# Altium schematic symbol library MCU.SchLib: 34 symbols (part 2 of 2)
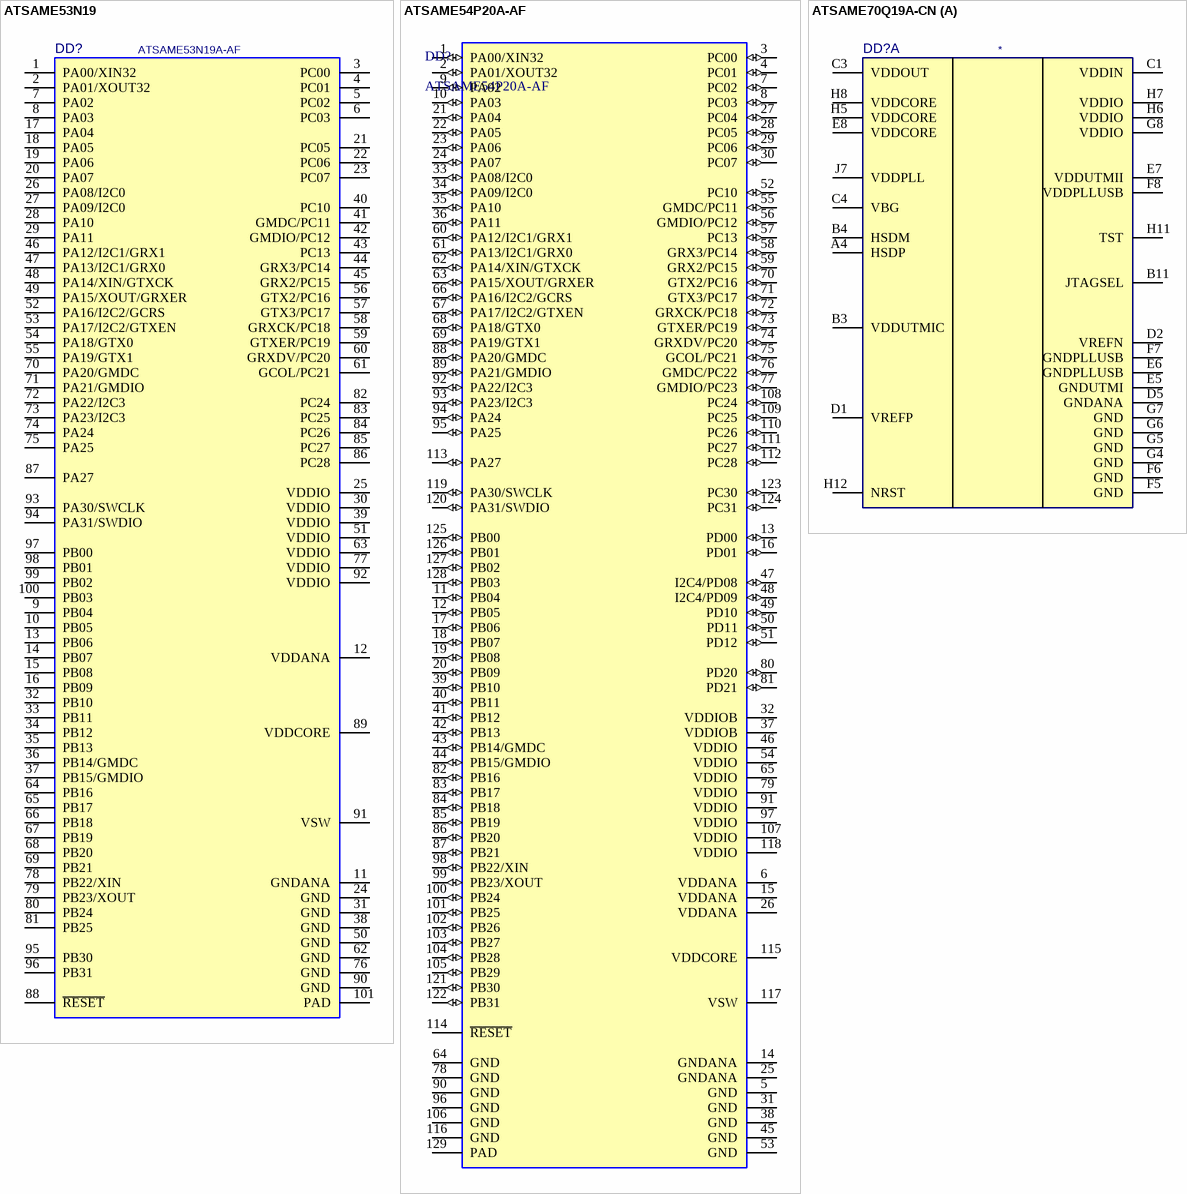
[diagram p13: symbols ATSAME53N19 to ATSAME70Q19A-CN]

## ATSAME53N19
designator DD?, comment ATSAME53N19A-AF
footprint LQFP100-TPAD
pins: 1 PA00/XIN32 (power), 2 PA01/XOUT32 (power), 3 PC00 (power), 4 PC01 (power), 5 PC02 (power), 6 PC03 (power), 7 PA02 (power), 8 PA03 (power), 9 PB04 (power), 10 PB05 (power), 11 GNDANA (power), 12 VDDANA (power), 13 PB06 (power), 14 PB07 (power), 15 PB08 (power), 16 PB09 (power), 17 PA04 (power), 18 PA05 (power), 19 PA06 (power), 20 PA07 (power), 21 PC05 (power), 22 PC06 (power), 23 PC07 (power), 24 GND (power), 25 VDDIO (power), 26 PA08/I2C0 (power), 27 PA09/I2C0 (power), 28 PA10 (power), 29 PA11 (power), 30 VDDIO (power), 31 GND (power), 32 PB10 (power), 33 PB11 (power), 34 PB12 (power), 35 PB13 (power), 36 PB14/GMDC (power), 37 PB15/GMDIO (power), 38 GND (power), 39 VDDIO (power), 40 PC10 (power), 41 GMDC/PC11 (power), 42 GMDIO/PC12 (power), 43 PC13 (power), 44 GRX3/PC14 (power), 45 GRX2/PC15 (power), 46 PA12/I2C1/GRX1 (power), 47 PA13/I2C1/GRX0 (power), 48 PA14/XIN/GTXCK (power), 49 PA15/XOUT/GRXER (power), 50 GND (power), 51 VDDIO (power), 52 PA16/I2C2/GCRS (power), 53 PA17/I2C2/GTXEN (power), 54 PA18/GTX0 (power), 55 PA19/GTX1 (power), 56 GTX2/PC16 (power), 57 GTX3/PC17 (power), 58 GRXCK/PC18 (power), 59 GTXER/PC19 (power), 60 GRXDV/PC20 (power), 61 GCOL/PC21 (power), 62 GND (power), 63 VDDIO (power), 64 PB16 (power), 65 PB17 (power), 66 PB18 (power), 67 PB19 (power), 68 PB20 (power), 69 PB21 (power), 70 PA20/GMDC (power), 71 PA21/GMDIO (power), 72 PA22/I2C3 (power), 73 PA23/I2C3 (power), 74 PA24 (power), 75 PA25 (power), 76 GND (power), 77 VDDIO (power), 78 PB22/XIN (power), 79 PB23/XOUT (power), 80 PB24 (power), 81 PB25 (power), 82 PC24 (power), 83 PC25 (power), 84 PC26 (power), 85 PC27 (power), 86 PC28 (power), 87 PA27 (power), 88 ~{RESET} (power), 89 VDDCORE (power), 90 GND (power), 91 VSW (power), 92 VDDIO (power), 93 PA30/SWCLK (power), 94 PA31/SWDIO (power), 95 PB30 (power), 96 PB31 (power), 97 PB00 (power), 98 PB01 (power), 99 PB02 (power), 100 PB03 (power), 101 PAD (power)

## ATSAME54P20A-AF
designator DD?
No Description Available; Mfr_Name: Microchip; RefDes: RefDes; Type: Type
footprint TQFP128-0.4-TPAD (QFP; 128 Leads; Body 14 x 14 mm; Pitch 0.4 mm)
pins: 1 PA00/XIN32 (io), 2 PA01/XOUT32 (io), 3 PC00 (io), 4 PC01 (io), 5 GND (power), 6 VDDANA (power), 7 PC02 (io), 8 PC03 (io), 9 PA02 (io), 10 PA03 (io), 11 PB04 (io), 12 PB05 (io), 13 PD00 (io), 14 GNDANA (power), 15 VDDANA (power), 16 PD01 (io), 17 PB06 (io), 18 PB07 (io), 19 PB08 (io), 20 PB09 (io), 21 PA04 (io), 22 PA05 (io), 23 PA06 (io), 24 PA07 (io), 25 GNDANA (power), 26 VDDANA (power), 27 PC04 (io), 28 PC05 (io), 29 PC06 (io), 30 PC07 (io), 31 GND (power), 32 VDDIOB (power), 33 PA08/I2C0 (io), 34 PA09/I2C0 (io), 35 PA10 (io), 36 PA11 (io), 37 VDDIOB (power), 38 GND (power), 39 PB10 (io), 40 PB11 (io), 41 PB12 (io), 42 PB13 (io), 43 PB14/GMDC (io), 44 PB15/GMDIO (io), 45 GND (power), 46 VDDIO (power), 47 I2C4/PD08 (io), 48 I2C4/PD09 (io), 49 PD10 (io), 50 PD11 (io), 51 PD12 (io), 52 PC10 (io), 53 GND (power), 54 VDDIO (power), 55 GMDC/PC11 (io), 56 GMDIO/PC12 (io), 57 PC13 (io), 58 GRX3/PC14 (io), 59 GRX2/PC15 (io), 60 PA12/I2C1/GRX1 (io), 61 PA13/I2C1/GRX0 (io), 62 PA14/XIN/GTXCK (io), 63 PA15/XOUT/GRXER (io), 64 GND (power), 65 VDDIO (power), 66 PA16/I2C2/GCRS (io), 67 PA17/I2C2/GTXEN (io), 68 PA18/GTX0 (io), 69 PA19/GTX1 (io), 70 GTX2/PC16 (io), 71 GTX3/PC17 (io), 72 GRXCK/PC18 (io), 73 GTXER/PC19 (io), 74 GRXDV/PC20 (io), 75 GCOL/PC21 (io), 76 GMDC/PC22 (io), 77 GMDIO/PC23 (io), 78 GND (power), 79 VDDIO (power), 80 PD20 (io), 81 PD21 (io), 82 PB16 (io), 83 PB17 (io), 84 PB18 (io), 85 PB19 (io), 86 PB20 (io), 87 PB21 (io), 88 PA20/GMDC (io), 89 PA21/GMDIO (io), 90 GND (power), 91 VDDIO (power), 92 PA22/I2C3 (io), 93 PA23/I2C3 (io), 94 PA24 (io), 95 PA25 (io), 96 GND (power), 97 VDDIO (power), 98 PB22/XIN (io), 99 PB23/XOUT (io), 100 PB24 (io), 101 PB25 (io), 102 PB26 (io), 103 PB27 (io), 104 PB28 (io), 105 PB29 (io), 106 GND (power), 107 VDDIO (power), 108 PC24 (io), 109 PC25 (io), 110 PC26 (io), 111 PC27 (io), 112 PC28 (io), 113 PA27 (io), 114 ~{RESET}, 115 VDDCORE (power), 116 GND (power), 117 VSW, 118 VDDIO (power), 119 PA30/SWCLK (io), 120 PA31/SWDIO (io), 121 PB30 (io), 122 PB31 (io), 123 PC30 (io), 124 PC31 (io), 125 PB00 (io), 126 PB01 (io), 127 PB02 (io), 128 PB03 (io), 129 PAD (power)

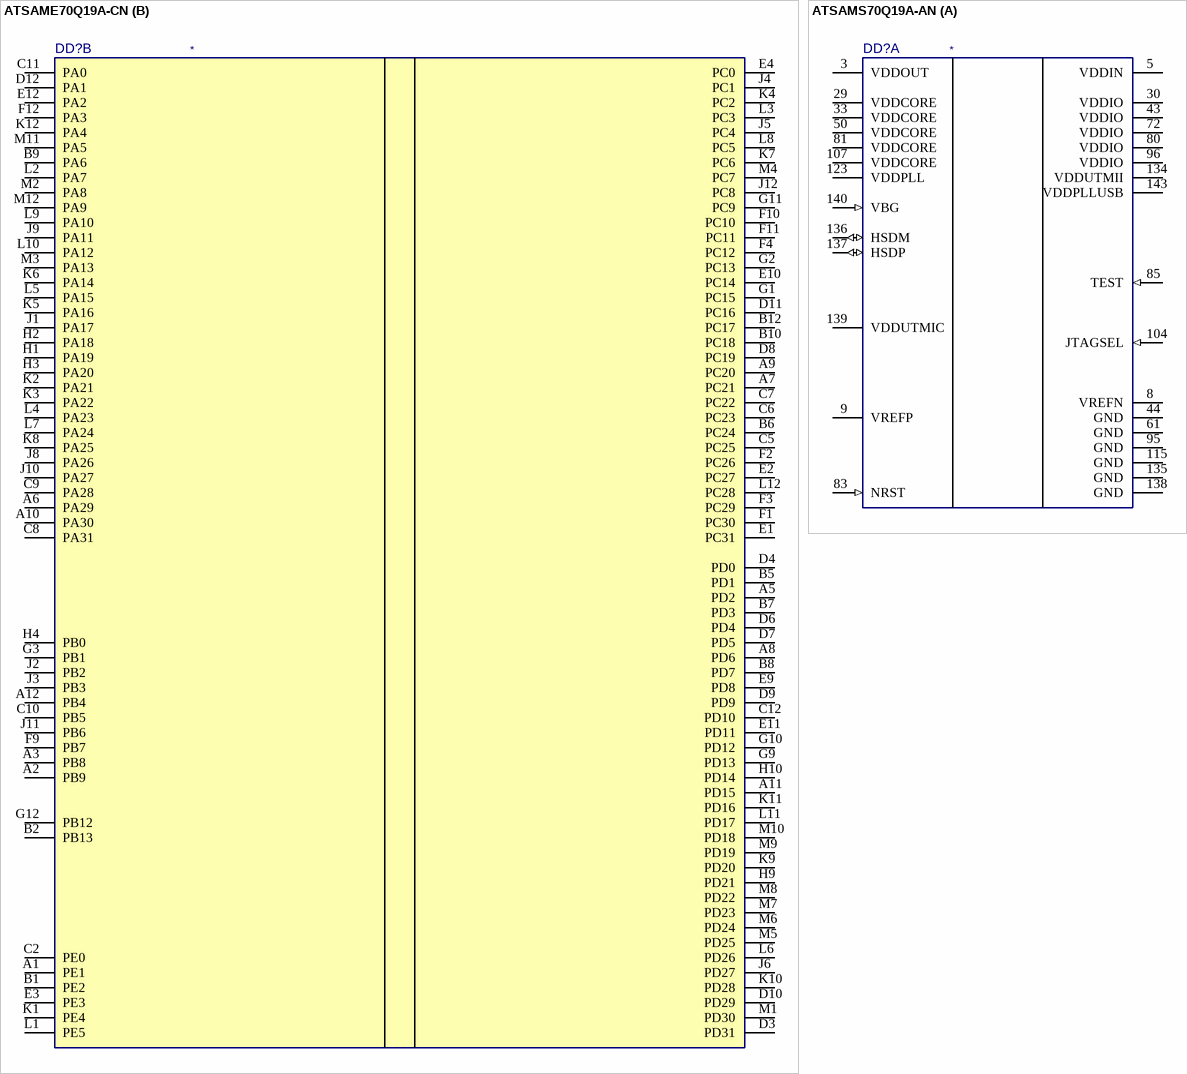
[diagram p8: symbols ATSAME70Q19A-CN to ATSAMS70Q19A-AN]

## ATSAME70Q19A-CN
designator DD?
footprint LFBGA144 (BGA, 144-Leads, Body 10x10mm, Pitch 0.8mm)
part A pins: A4 HSDP, B3 VDDUTMIC, B4 HSDM, B11 JTAGSEL, C1 VDDIN, C3 VDDOUT, C4 VBG, D1 VREFP, D2 VREFN, D5 GNDANA, E5 GNDUTMI, E6 GNDPLLUSB, E7 VDDUTMII, E8 VDDCORE, F5 GND, F6 GND, F7 GNDPLLUSB, F8 VDDPLLUSB, G4 GND, G5 GND, G6 GND, G7 GND, G8 VDDIO, H5 VDDCORE, H6 VDDIO, H7 VDDIO, H8 VDDCORE, H11 TST, H12 NRST, J7 VDDPLL
part B pins: A1 PE1, A2 PB9, A3 PB8, A5 PD2, A6 PA29, A7 PC21, A8 PD6, A9 PC20, A10 PA30, A11 PD15, A12 PB4, B1 PE2, B2 PB13, B5 PD1, B6 PC24, B7 PD3, B8 PD7, B9 PA6, B10 PC18, B12 PC17, C2 PE0, C5 PC25, C6 PC23, C7 PC22, C8 PA31, C9 PA28, C10 PB5, C11 PA0, C12 PD10, D3 PD31, D4 PD0, D6 PD4, D7 PD5, D8 PC19, D9 PD9, D10 PD29, D11 PC16, D12 PA1, E1 PC31, E2 PC27, E3 PE3, E4 PC0, E9 PD8, E10 PC14, E11 PD11, E12 PA2, F1 PC30, F2 PC26, F3 PC29, F4 PC12, F9 PB7, F10 PC10, F11 PC11, F12 PA3, G1 PC15, G2 PC13, G3 PB1, G9 PD13, G10 PD12, G11 PC9, G12 PB12, H1 PA19, H2 PA18, H3 PA20, H4 PB0, H9 PD21, H10 PD14, J1 PA17, J2 PB2, J3 PB3, J4 PC1, J5 PC4, J6 PD27, J8 PA26, J9 PA11, J10 PA27, J11 PB6, J12 PC8, K1 PE4, K2 PA21, K3 PA22, K4 PC2, K5 PA16, K6 PA14, K7 PC6, K8 PA25, K9 PD20, K10 PD28, K11 PD16, K12 PA4, L1 PE5, L2 PA7, L3 PC3, L4 PA23, L5 PA15, L6 PD26, L7 PA24, L8 PC5, L9 PA10, L10 PA12, L11 PD17, L12 PC28, M1 PD30, M2 PA8, M3 PA13, M4 PC7, M5 PD25, M6 PD24, M7 PD23, M8 PD22, M9 PD19, M10 PD18, M11 PA5, M12 PA9

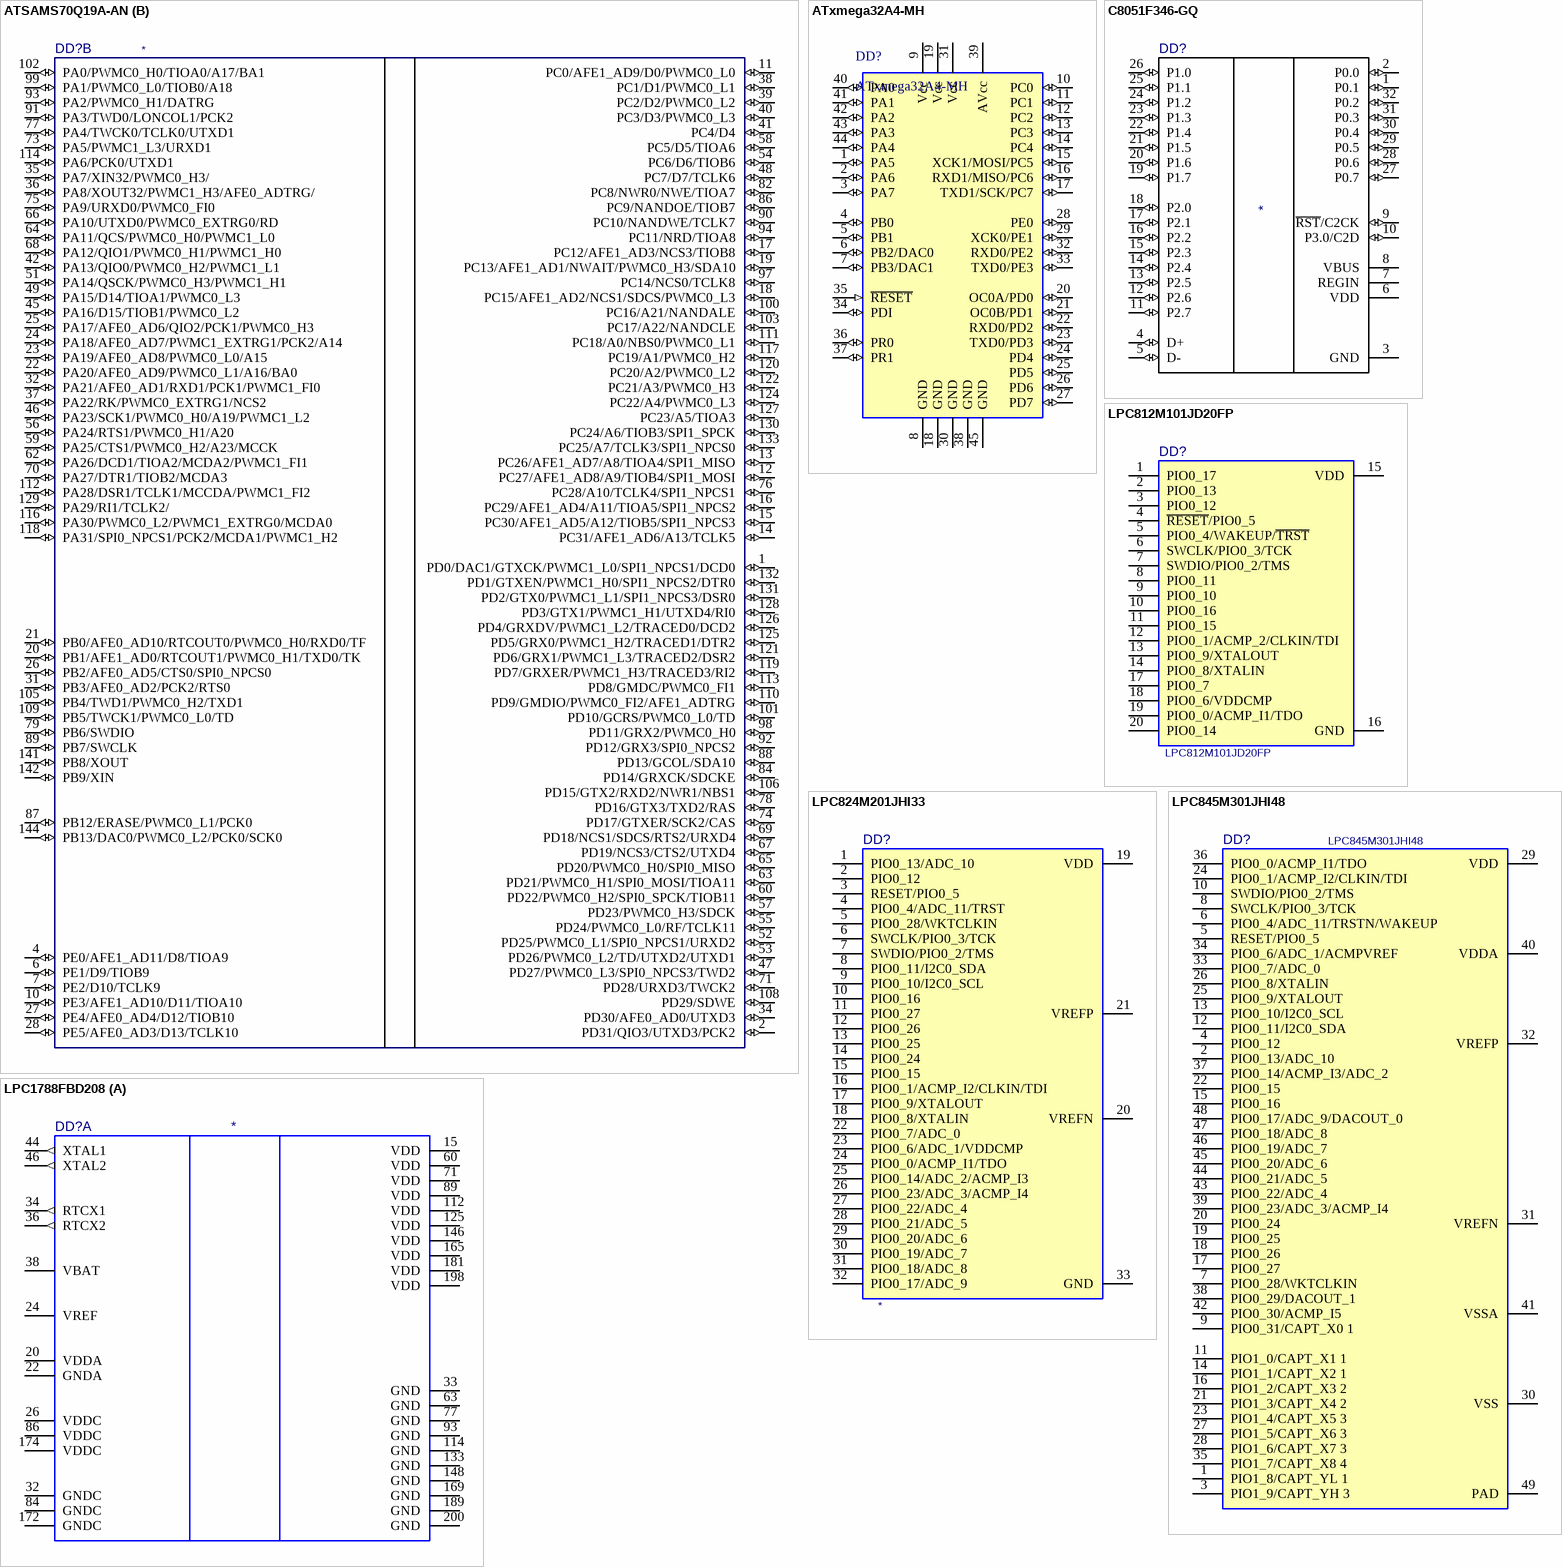
[diagram p9: symbols ATSAMS70Q19A-AN to LPC1788FBD208]

## ATSAMS70Q19A-AN
designator DD?
footprint LQFP144
part A pins: 3 VDDOUT (power), 5 VDDIN (power), 8 VREFN (power), 9 VREFP (power), 29 VDDCORE (power), 30 VDDIO (power), 33 VDDCORE (power), 43 VDDIO (power), 44 GND (power), 50 VDDCORE (power), 61 GND (power), 72 VDDIO (power), 80 VDDIO (power), 81 VDDCORE (power), 83 NRST (in), 85 TEST (in), 95 GND (power), 96 VDDIO (power), 104 JTAGSEL (in), 107 VDDCORE (power), 115 GND (power), 123 VDDPLL (power), 134 VDDUTMII (power), 135 GND (power), 136 HSDM (io), 137 HSDP (io), 138 GND (power), 139 VDDUTMIC (power), 140 VBG (in), 143 VDDPLLUSB (power)
part B pins: 1 PD0/DAC1/GTXCK/PWMC1_L0/SPI1_NPCS1/DCD0 (io), 2 PD31/QIO3/UTXD3/PCK2 (io), 4 PE0/AFE1_AD11/D8/TIOA9 (io), 6 PE1/D9/TIOB9 (io), 7 PE2/D10/TCLK9 (io), 10 PE3/AFE1_AD10/D11/TIOA10 (io), 11 PC0/AFE1_AD9/D0/PWMC0_L0 (io), 12 PC27/AFE1_AD8/A9/TIOB4/SPI1_MOSI (io), 13 PC26/AFE1_AD7/A8/TIOA4/SPI1_MISO (io), 14 PC31/AFE1_AD6/A13/TCLK5 (io), 15 PC30/AFE1_AD5/A12/TIOB5/SPI1_NPCS3 (io), 16 PC29/AFE1_AD4/A11/TIOA5/SPI1_NPCS2 (io), 17 PC12/AFE1_AD3/NCS3/TIOB8 (io), 18 PC15/AFE1_AD2/NCS1/SDCS/PWMC0_L3 (io), 19 PC13/AFE1_AD1/NWAIT/PWMC0_H3/SDA10 (io), 20 PB1/AFE1_AD0/RTCOUT1/PWMC0_H1/TXD0/TK (io), 21 PB0/AFE0_AD10/RTCOUT0/PWMC0_H0/RXD0/TF (io), 22 PA20/AFE0_AD9/PWMC0_L1/A16/BA0 (io), 23 PA19/AFE0_AD8/PWMC0_L0/A15 (io), 24 PA18/AFE0_AD7/PWMC1_EXTRG1/PCK2/A14 (io), 25 PA17/AFE0_AD6/QIO2/PCK1/PWMC0_H3 (io), 26 PB2/AFE0_AD5/CTS0/SPI0_NPCS0 (io), 27 PE4/AFE0_AD4/D12/TIOB10 (io), 28 PE5/AFE0_AD3/D13/TCLK10 (io), 31 PB3/AFE0_AD2/PCK2/RTS0 (io), 32 PA21/AFE0_AD1/RXD1/PCK1/PWMC1_FI0 (io), 34 PD30/AFE0_AD0/UTXD3 (io), 35 PA7/XIN32/PWMC0_H3/ (io), 36 PA8/XOUT32/PWMC1_H3/AFE0_ADTRG/ (io), 37 PA22/RK/PWMC0_EXTRG1/NCS2 (io), 38 PC1/D1/PWMC0_L1 (io), 39 PC2/D2/PWMC0_L2 (io), 40 PC3/D3/PWMC0_L3 (io), 41 PC4/D4 (io), 42 PA13/QIO0/PWMC0_H2/PWMC1_L1 (io), 45 PA16/D15/TIOB1/PWMC0_L2 (io), 46 PA23/SCK1/PWMC0_H0/A19/PWMC1_L2 (io), 47 PD27/PWMC0_L3/SPI0_NPCS3/TWD2 (io), 48 PC7/D7/TCLK6 (io), 49 PA15/D14/TIOA1/PWMC0_L3 (io), 51 PA14/QSCK/PWMC0_H3/PWMC1_H1 (io), 52 PD25/PWMC0_L1/SPI0_NPCS1/URXD2 (io), 53 PD26/PWMC0_L2/TD/UTXD2/UTXD1 (io), 54 PC6/D6/TIOB6 (io), 55 PD24/PWMC0_L0/RF/TCLK11 (io), 56 PA24/RTS1/PWMC0_H1/A20 (io), 57 PD23/PWMC0_H3/SDCK (io), 58 PC5/D5/TIOA6 (io), 59 PA25/CTS1/PWMC0_H2/A23/MCCK (io), 60 PD22/PWMC0_H2/SPI0_SPCK/TIOB11 (io), 62 PA26/DCD1/TIOA2/MCDA2/PWMC1_FI1 (io), 63 PD21/PWMC0_H1/SPI0_MOSI/TIOA11 (io), 64 PA11/QCS/PWMC0_H0/PWMC1_L0 (io), 65 PD20/PWMC0_H0/SPI0_MISO (io), 66 PA10/UTXD0/PWMC0_EXTRG0/RD (io), 67 PD19/NCS3/CTS2/UTXD4 (io), 68 PA12/QIO1/PWMC0_H1/PWMC1_H0 (io), 69 PD18/NCS1/SDCS/RTS2/URXD4 (io), 70 PA27/DTR1/TIOB2/MCDA3 (io), 71 PD28/URXD3/TWCK2 (io), 73 PA5/PWMC1_L3/URXD1 (io), 74 PD17/GTXER/SCK2/CAS (io), 75 PA9/URXD0/PWMC0_FI0 (io), 76 PC28/A10/TCLK4/SPI1_NPCS1 (io), 77 PA4/TWCK0/TCLK0/UTXD1 (io), 78 PD16/GTX3/TXD2/RAS (io), 79 PB6/SWDIO (io), 82 PC8/NWR0/NWE/TIOA7 (io), 84 PD14/GRXCK/SDCKE (io), 86 PC9/NANDOE/TIOB7 (io), 87 PB12/ERASE/PWMC0_L1/PCK0 (io), 88 PD13/GCOL/SDA10 (io), 89 PB7/SWCLK (io), 90 PC10/NANDWE/TCLK7 (io), 91 PA3/TWD0/LONCOL1/PCK2 (io), 92 PD12/GRX3/SPI0_NPCS2 (io), 93 PA2/PWMC0_H1/DATRG (io), 94 PC11/NRD/TIOA8 (io), 97 PC14/NCS0/TCLK8 (io), 98 PD11/GRX2/PWMC0_H0 (io), 99 PA1/PWMC0_L0/TIOB0/A18 (io), 100 PC16/A21/NANDALE (io), 101 PD10/GCRS/PWMC0_L0/TD (io), 102 PA0/PWMC0_H0/TIOA0/A17/BA1 (io), 103 PC17/A22/NANDCLE (io), 105 PB4/TWD1/PWMC0_H2/TXD1 (io), 106 PD15/GTX2/RXD2/NWR1/NBS1 (io), 108 PD29/SDWE (io), 109 PB5/TWCK1/PWMC0_L0/TD (io), 110 PD9/GMDIO/PWMC0_FI2/AFE1_ADTRG (io), 111 PC18/A0/NBS0/PWMC0_L1 (io), 112 PA28/DSR1/TCLK1/MCCDA/PWMC1_FI2 (io), 113 PD8/GMDC/PWMC0_FI1 (io), 114 PA6/PCK0/UTXD1 (io), 116 PA30/PWMC0_L2/PWMC1_EXTRG0/MCDA0 (io), 117 PC19/A1/PWMC0_H2 (io), 118 PA31/SPI0_NPCS1/PCK2/MCDA1/PWMC1_H2 (io), 119 PD7/GRXER/PWMC1_H3/TRACED3/RI2 (io), 120 PC20/A2/PWMC0_L2 (io), 121 PD6/GRX1/PWMC1_L3/TRACED2/DSR2 (io), 122 PC21/A3/PWMC0_H3 (io), 124 PC22/A4/PWMC0_L3 (io), 125 PD5/GRX0/PWMC1_H2/TRACED1/DTR2 (io), 126 PD4/GRXDV/PWMC1_L2/TRACED0/DCD2 (io), 127 PC23/A5/TIOA3 (io), 128 PD3/GTX1/PWMC1_H1/UTXD4/RI0 (io), 129 PA29/RI1/TCLK2/ (io), 130 PC24/A6/TIOB3/SPI1_SPCK (io), 131 PD2/GTX0/PWMC1_L1/SPI1_NPCS3/DSR0 (io), 132 PD1/GTXEN/PWMC1_H0/SPI1_NPCS2/DTR0 (io), 133 PC25/A7/TCLK3/SPI1_NPCS0 (io), 141 PB8/XOUT (io), 142 PB9/XIN (io), 144 PB13/DAC0/PWMC0_L2/PCK0/SCK0 (io)

## ATxmega32A4-MH
designator DD?
XMEGA processor
footprint VQFN44M1
pins: 1 PA5 (io), 2 PA6 (io), 3 PA7 (io), 4 PB0 (io), 5 PB1 (io), 6 PB2/DAC0 (io), 7 PB3/DAC1 (io), 8 GND (power), 9 Vcc (power), 10 PC0 (io), 11 PC1 (io), 12 PC2 (io), 13 PC3 (io), 14 PC4 (io), 15 XCK1/MOSI/PC5 (io), 16 RXD1/MISO/PC6 (io), 17 TXD1/SCK/PC7 (io), 18 GND (power), 19 Vcc (power), 20 OC0A/PD0 (io), 21 OC0B/PD1 (io), 22 RXD0/PD2 (io), 23 TXD0/PD3 (io), 24 PD4 (io), 25 PD5 (io), 26 PD6 (io), 27 PD7 (io), 28 PE0 (io), 29 XCK0/PE1 (io), 30 GND (power), 31 Vcc (power), 32 RXD0/PE2 (io), 33 TXD0/PE3 (io), 34 PDI (io), 35 ~{RESET} (in), 36 PR0 (io), 37 PR1 (io), 38 GND (power), 39 AVcc (power), 40 PA0 (io), 41 PA1 (io), 42 PA2 (io), 43 PA3 (io), 44 PA4 (io), 45 GND (power)

## C8051F346-GQ
designator DD?
footprint TQFP32(51-85063)
signal-integrity model Model Name (Model Description)
pins: 1 P0.1 (io), 2 P0.0 (io), 3 GND (power), 4 D+ (io), 5 D- (io), 6 VDD (power), 7 REGIN (power), 8 VBUS (power), 9 ~{RST}/C2CK (io), 10 P3.0/C2D (io), 11 P2.7 (io), 12 P2.6 (io), 13 P2.5 (io), 14 P2.4 (io), 15 P2.3 (io), 16 P2.2 (io), 17 P2.1 (io), 18 P2.0 (io), 19 P1.7 (io), 20 P1.6 (io), 21 P1.5 (io), 22 P1.4 (io), 23 P1.3 (io), 24 P1.2 (io), 25 P1.1 (io), 26 P1.0 (io), 27 P0.7 (io), 28 P0.6 (io), 29 P0.5 (io), 30 P0.4 (io), 31 P0.3 (io), 32 P0.2 (io)

## LPC812M101JD20FP
designator DD?
footprint SO20
footprint TSSOP20 (JEDEC MO-153)
footprint SO20 (JEDEC MS-013)
pins: 1 PIO0_17, 2 PIO0_13, 3 PIO0_12, 4 ~{RESET}/PIO0_5, 5 PIO0_4/WAKEUP/~{TRST}, 6 SWCLK/PIO0_3/TCK, 7 SWDIO/PIO0_2/TMS, 8 PIO0_11, 9 PIO0_10, 10 PIO0_16, 11 PIO0_15, 12 PIO0_1/ACMP_2/CLKIN/TDI, 13 PIO0_9/XTALOUT, 14 PIO0_8/XTALIN, 15 VDD, 16 GND, 17 PIO0_7, 18 PIO0_6/VDDCMP, 19 PIO0_0/ACMP_I1/TDO, 20 PIO0_14

## LPC824M201JHI33
designator DD?
footprint HVQFN33
pins: 1 PIO0_13/ADC_10, 2 PIO0_12, 3 RESET/PIO0_5, 4 PIO0_4/ADC_11/TRST, 5 PIO0_28/WKTCLKIN, 6 SWCLK/PIO0_3/TCK , 7 SWDIO/PIO0_2/TMS, 8 PIO0_11/I2C0_SDA, 9 PIO0_10/I2C0_SCL, 10 PIO0_16, 11 PIO0_27, 12 PIO0_26, 13 PIO0_25, 14 PIO0_24, 15 PIO0_15, 16 PIO0_1/ACMP_I2/CLKIN/TDI, 17 PIO0_9/XTALOUT, 18 PIO0_8/XTALIN, 19 VDD, 20 VREFN, 21 VREFP, 22 PIO0_7/ADC_0, 23 PIO0_6/ADC_1/VDDCMP, 24 PIO0_0/ACMP_I1/TDO, 25 PIO0_14/ADC_2/ACMP_I3, 26 PIO0_23/ADC_3/ACMP_I4, 27 PIO0_22/ADC_4, 28 PIO0_21/ADC_5, 29 PIO0_20/ADC_6, 30 PIO0_19/ADC_7, 31 PIO0_18/ADC_8, 32 PIO0_17/ADC_9, 33 GND

## LPC845M301JHI48
designator DD?
footprint HVQFN48 (SOT619-1, plastic thermal enhanced very thin quad flat package; no leads;  48 terminals; body 7 x 7 x 0.85 mm)
pins: 1 PIO1_8/CAPT_YL 1, 2 PIO0_13/ADC_10, 3 PIO1_9/CAPT_YH 3, 4 PIO0_12, 5 RESET/PIO0_5, 6 PIO0_4/ADC_11/TRSTN/WAKEUP, 7 PIO0_28/WKTCLKIN, 8 SWCLK/PIO0_3/TCK, 9 PIO0_31/CAPT_X0 1, 10 SWDIO/PIO0_2/TMS, 11 PIO1_0/CAPT_X1 1, 12 PIO0_11/I2C0_SDA, 13 PIO0_10/I2C0_SCL, 14 PIO1_1/CAPT_X2 1, 15 PIO0_16, 16 PIO1_2/CAPT_X3 2, 17 PIO0_27, 18 PIO0_26, 19 PIO0_25, 20 PIO0_24, 21 PIO1_3/CAPT_X4 2, 22 PIO0_15, 23 PIO1_4/CAPT_X5 3, 24 PIO0_1/ACMP_I2/CLKIN/TDI, 25 PIO0_9/XTALOUT, 26 PIO0_8/XTALIN, 27 PIO1_5/CAPT_X6 3, 28 PIO1_6/CAPT_X7 3, 29 VDD, 30 VSS, 31 VREFN, 32 VREFP, 33 PIO0_7/ADC_0, 34 PIO0_6/ADC_1/ACMPVREF, 35 PIO1_7/CAPT_X8 4, 36 PIO0_0/ACMP_I1/TDO, 37 PIO0_14/ACMP_I3/ADC_2, 38 PIO0_29/DACOUT_1, 39 PIO0_23/ADC_3/ACMP_I4, 40 VDDA, 41 VSSA, 42 PIO0_30/ACMP_I5, 43 PIO0_22/ADC_4, 44 PIO0_21/ADC_5, 45 PIO0_20/ADC_6, 46 PIO0_19/ADC_7, 47 PIO0_18/ADC_8, 48 PIO0_17/ADC_9/DACOUT_0, 49 PAD

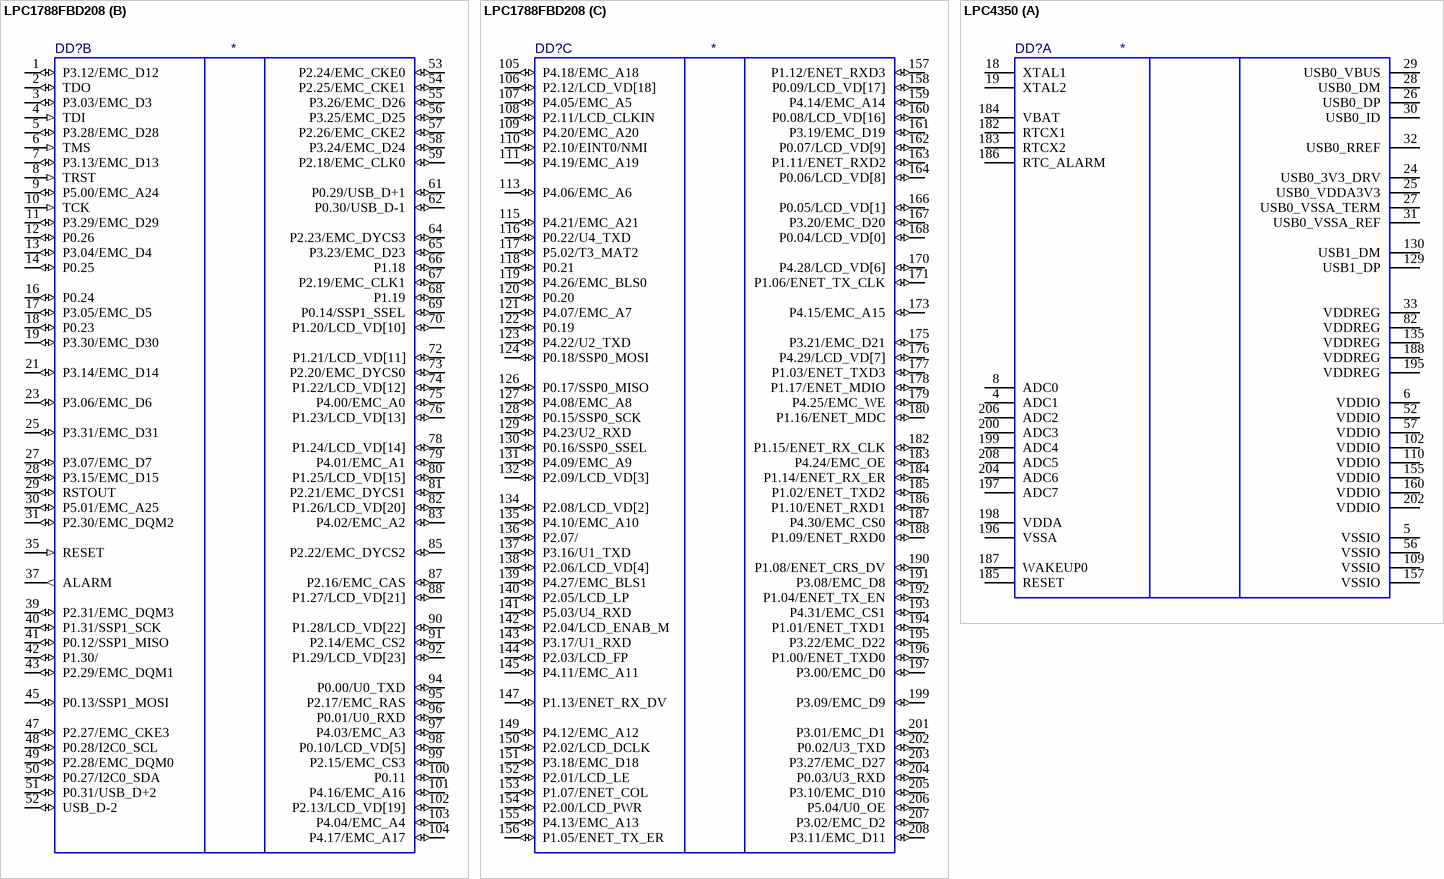
[diagram p10: symbols LPC1788FBD208 to LPC4350]

## LPC1788FBD208
designator DD?
footprint QFP22-208
signal-integrity model Model Name (Model Description)
part A pins: 15 VDD (power), 20 VDDA (power), 22 GNDA (power), 24 VREF (power), 26 VDDC (power), 32 GNDC (power), 33 GND (power), 34 RTCX1 (out), 36 RTCX2 (out), 38 VBAT (power), 44 XTAL1 (out), 46 XTAL2 (out), 60 VDD (power), 63 GND (power), 71 VDD (power), 77 GND (power), 84 GNDC (power), 86 VDDC (power), 89 VDD (power), 93 GND (power), 112 VDD (power), 114 GND (power), 125 VDD (power), 133 GND (power), 146 VDD (power), 148 GND (power), 165 VDD (power), 169 GND (power), 172 GNDC (power), 174 VDDC (power), 181 VDD (power), 189 GND (power), 198 VDD (power), 200 GND (power)
part B pins: 1 P3.12/EMC_D12 (io), 2 TDO (io), 3 P3.03/EMC_D3 (io), 4 TDI (in), 5 P3.28/EMC_D28 (io), 6 TMS (in), 7 P3.13/EMC_D13 (io), 8 TRST (in), 9 P5.00/EMC_A24 (io), 10 TCK (in), 11 P3.29/EMC_D29 (io), 12 P0.26 (io), 13 P3.04/EMC_D4 (io), 14 P0.25 (io), 16 P0.24 (io), 17 P3.05/EMC_D5 (io), 18 P0.23 (io), 19 P3.30/EMC_D30 (io), 21 P3.14/EMC_D14 (io), 23 P3.06/EMC_D6 (io), 25 P3.31/EMC_D31 (io), 27 P3.07/EMC_D7 (io), 28 P3.15/EMC_D15 (io), 29 RSTOUT (io), 30 P5.01/EMC_A25 (io), 31 P2.30/EMC_DQM2 (io), 35 RESET (in), 37 ALARM (out), 39 P2.31/EMC_DQM3 (io), 40 P1.31/SSP1_SCK (io), 41 P0.12/SSP1_MISO (io), 42 P1.30/ (io), 43 P2.29/EMC_DQM1 (io), 45 P0.13/SSP1_MOSI (io), 47 P2.27/EMC_CKE3 (io), 48 P0.28/I2C0_SCL (io), 49 P2.28/EMC_DQM0 (io), 50 P0.27/I2C0_SDA (io), 51 P0.31/USB_D+2 (io), 52 USB_D-2 (io), 53 P2.24/EMC_CKE0 (io), 54 P2.25/EMC_CKE1 (io), 55 P3.26/EMC_D26 (io), 56 P3.25/EMC_D25 (io), 57 P2.26/EMC_CKE2 (io), 58 P3.24/EMC_D24 (io), 59 P2.18/EMC_CLK0 (io), 61 P0.29/USB_D+1 (io), 62 P0.30/USB_D-1 (io), 64 P2.23/EMC_DYCS3 (io), 65 P3.23/EMC_D23 (io), 66 P1.18 (io), 67 P2.19/EMC_CLK1 (io), 68 P1.19 (io), 69 P0.14/SSP1_SSEL (io), 70 P1.20/LCD_VD[10] (io), 72 P1.21/LCD_VD[11] (io), 73 P2.20/EMC_DYCS0 (io), 74 P1.22/LCD_VD[12] (io), 75 P4.00/EMC_A0 (io), 76 P1.23/LCD_VD[13] (io), 78 P1.24/LCD_VD[14] (io), 79 P4.01/EMC_A1 (io), 80 P1.25/LCD_VD[15] (io), 81 P2.21/EMC_DYCS1 (io), 82 P1.26/LCD_VD[20] (io), 83 P4.02/EMC_A2 (io), 85 P2.22/EMC_DYCS2 (io), 87 P2.16/EMC_CAS (io), 88 P1.27/LCD_VD[21] (io), 90 P1.28/LCD_VD[22] (io), 91 P2.14/EMC_CS2 (io), 92 P1.29/LCD_VD[23] (io), 94 P0.00/U0_TXD (io), 95 P2.17/EMC_RAS (io), 96 P0.01/U0_RXD (io), 97 P4.03/EMC_A3 (io), 98 P0.10/LCD_VD[5] (io), 99 P2.15/EMC_CS3 (io), 100 P0.11 (io), 101 P4.16/EMC_A16 (io), 102 P2.13/LCD_VD[19] (io), 103 P4.04/EMC_A4 (io), 104 P4.17/EMC_A17 (io)
part C pins: 105 P4.18/EMC_A18 (io), 106 P2.12/LCD_VD[18] (io), 107 P4.05/EMC_A5 (io), 108 P2.11/LCD_CLKIN (io), 109 P4.20/EMC_A20 (io), 110 P2.10/EINT0/NMI (io), 111 P4.19/EMC_A19 (io), 113 P4.06/EMC_A6 (io), 115 P4.21/EMC_A21 (io), 116 P0.22/U4_TXD (io), 117 P5.02/T3_MAT2 (io), 118 P0.21 (io), 119 P4.26/EMC_BLS0 (io), 120 P0.20 (io), 121 P4.07/EMC_A7 (io), 122 P0.19 (io), 123 P4.22/U2_TXD (io), 124 P0.18/SSP0_MOSI (io), 126 P0.17/SSP0_MISO (io), 127 P4.08/EMC_A8 (io), 128 P0.15/SSP0_SCK (io), 129 P4.23/U2_RXD (io), 130 P0.16/SSP0_SSEL (io), 131 P4.09/EMC_A9 (io), 132 P2.09/LCD_VD[3] (io), 134 P2.08/LCD_VD[2] (io), 135 P4.10/EMC_A10 (io), 136 P2.07/ (io), 137 P3.16/U1_TXD (io), 138 P2.06/LCD_VD[4] (io), 139 P4.27/EMC_BLS1 (io), 140 P2.05/LCD_LP (io), 141 P5.03/U4_RXD (io), 142 P2.04/LCD_ENAB_M (io), 143 P3.17/U1_RXD (io), 144 P2.03/LCD_FP (io), 145 P4.11/EMC_A11 (io), 147 P1.13/ENET_RX_DV (io), 149 P4.12/EMC_A12 (io), 150 P2.02/LCD_DCLK (io), 151 P3.18/EMC_D18 (io), 152 P2.01/LCD_LE (io), 153 P1.07/ENET_COL (io), 154 P2.00/LCD_PWR (io), 155 P4.13/EMC_A13 (io), 156 P1.05/ENET_TX_ER (io), 157 P1.12/ENET_RXD3 (io), 158 P0.09/LCD_VD[17] (io), 159 P4.14/EMC_A14 (io), 160 P0.08/LCD_VD[16] (io), 161 P3.19/EMC_D19 (io), 162 P0.07/LCD_VD[9] (io), 163 P1.11/ENET_RXD2 (io), 164 P0.06/LCD_VD[8] (io), 166 P0.05/LCD_VD[1] (io), 167 P3.20/EMC_D20 (io), 168 P0.04/LCD_VD[0] (io), 170 P4.28/LCD_VD[6] (io), 171 P1.06/ENET_TX_CLK (io), 173 P4.15/EMC_A15 (io), 175 P3.21/EMC_D21 (io), 176 P4.29/LCD_VD[7] (io), 177 P1.03/ENET_TXD3 (io), 178 P1.17/ENET_MDIO (io), 179 P4.25/EMC_WE (io), 180 P1.16/ENET_MDC (io), 182 P1.15/ENET_RX_CLK (io), 183 P4.24/EMC_OE (io), 184 P1.14/ENET_RX_ER (io), 185 P1.02/ENET_TXD2 (io), 186 P1.10/ENET_RXD1 (io), 187 P4.30/EMC_CS0 (io), 188 P1.09/ENET_RXD0 (io), 190 P1.08/ENET_CRS_DV (io), 191 P3.08/EMC_D8 (io), 192 P1.04/ENET_TX_EN (io), 193 P4.31/EMC_CS1 (io), 194 P1.01/ENET_TXD1 (io), 195 P3.22/EMC_D22 (io), 196 P1.00/ENET_TXD0 (io), 197 P3.00/EMC_D0 (io), 199 P3.09/EMC_D9 (io), 201 P3.01/EMC_D1 (io), 202 P0.02/U3_TXD (io), 203 P3.27/EMC_D27 (io), 204 P0.03/U3_RXD (io), 205 P3.10/EMC_D10 (io), 206 P5.04/U0_OE (io), 207 P3.02/EMC_D2 (io), 208 P3.11/EMC_D11 (io)

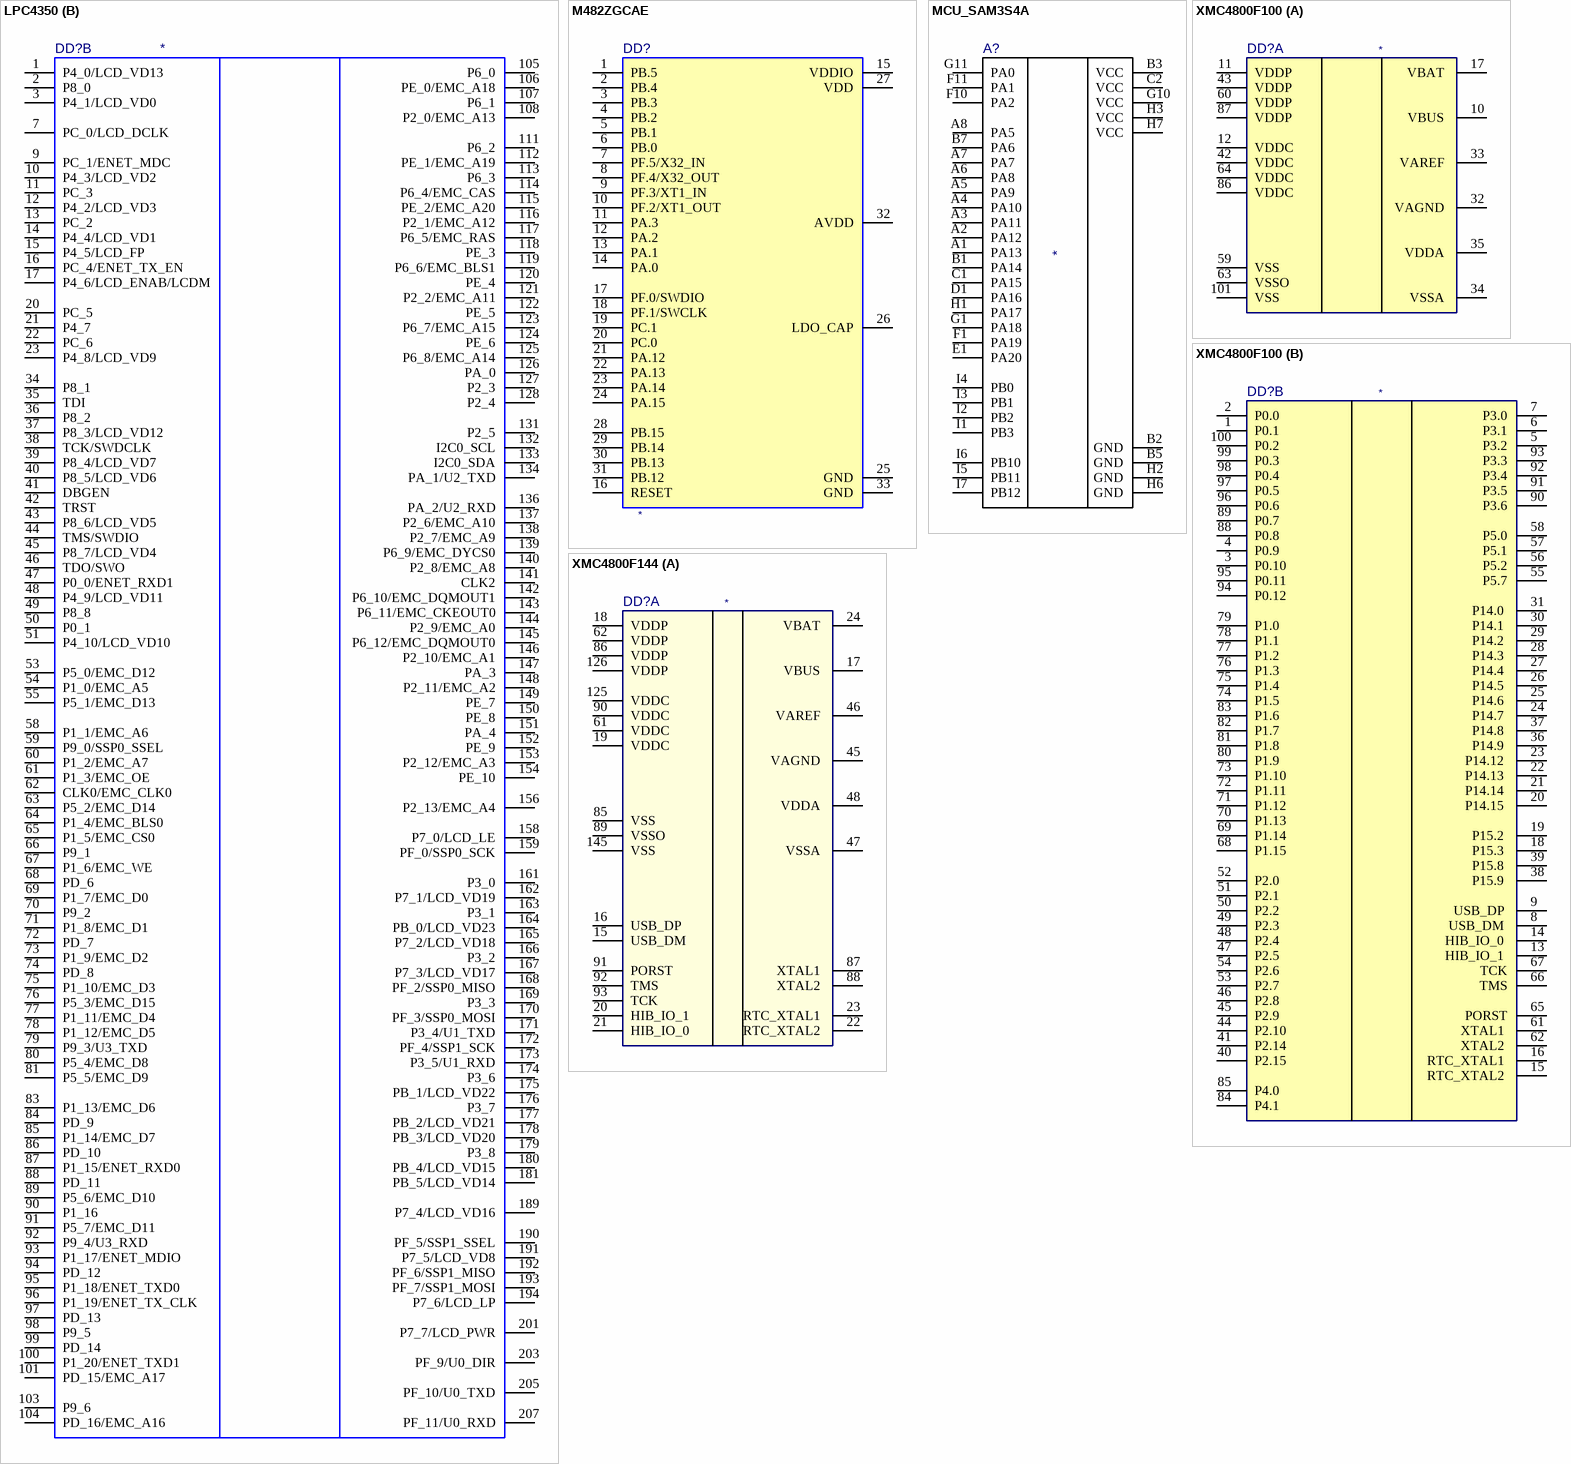
[diagram p11: symbols LPC4350 to XMC4800F144]

## LPC4350
designator DD?
footprint QFP22-208
part A pins: 4 ADC1, 5 VSSIO, 6 VDDIO, 8 ADC0, 18 XTAL1, 19 XTAL2, 24 USB0_3V3_DRV, 25 USB0_VDDA3V3, 26 USB0_DP, 27 USB0_VSSA_TERM, 28 USB0_DM, 29 USB0_VBUS, 30 USB0_ID, 31 USB0_VSSA_REF, 32 USB0_RREF, 33 VDDREG, 52 VDDIO, 56 VSSIO, 57 VDDIO, 82 VDDREG, 102 VDDIO, 109 VSSIO, 110 VDDIO, 129 USB1_DP, 130 USB1_DM, 135 VDDREG, 155 VDDIO, 157 VSSIO, 160 VDDIO, 182 RTCX1, 183 RTCX2, 184 VBAT, 185 RESET, 186 RTC_ALARM, 187 WAKEUP0, 188 VDDREG, 195 VDDREG, 196 VSSA, 197 ADC7, 198 VDDA, 199 ADC4, 200 ADC3, 202 VDDIO, 204 ADC6, 206 ADC2, 208 ADC5
part B pins: 1 P4_0/LCD_VD13, 2 P8_0, 3 P4_1/LCD_VD0, 7 PC_0/LCD_DCLK, 9 PC_1/ENET_MDC, 10 P4_3/LCD_VD2, 11 PC_3, 12 P4_2/LCD_VD3, 13 PC_2, 14 P4_4/LCD_VD1, 15 P4_5/LCD_FP, 16 PC_4/ENET_TX_EN, 17 P4_6/LCD_ENAB/LCDM, 20 PC_5, 21 P4_7, 22 PC_6, 23 P4_8/LCD_VD9, 34 P8_1, 35 TDI, 36 P8_2, 37 P8_3/LCD_VD12, 38 TCK/SWDCLK, 39 P8_4/LCD_VD7, 40 P8_5/LCD_VD6, 41 DBGEN, 42 TRST, 43 P8_6/LCD_VD5, 44 TMS/SWDIO, 45 P8_7/LCD_VD4, 46 TDO/SWO, 47 P0_0/ENET_RXD1, 48 P4_9/LCD_VD11, 49 P8_8, 50 P0_1, 51 P4_10/LCD_VD10, 53 P5_0/EMC_D12, 54 P1_0/EMC_A5 , 55 P5_1/EMC_D13, 58 P1_1/EMC_A6, 59 P9_0/SSP0_SSEL, 60 P1_2/EMC_A7, 61 P1_3/EMC_OE, 62 CLK0/EMC_CLK0, 63 P5_2/EMC_D14, 64 P1_4/EMC_BLS0, 65 P1_5/EMC_CS0 , 66 P9_1, 67 P1_6/EMC_WE, 68 PD_6, 69 P1_7/EMC_D0, 70 P9_2, 71 P1_8/EMC_D1, 72 PD_7, 73 P1_9/EMC_D2, 74 PD_8, 75 P1_10/EMC_D3, 76 P5_3/EMC_D15, 77 P1_11/EMC_D4, 78 P1_12/EMC_D5, 79 P9_3/U3_TXD, 80 P5_4/EMC_D8, 81 P5_5/EMC_D9, 83 P1_13/EMC_D6, 84 PD_9, 85 P1_14/EMC_D7, 86 PD_10, 87 P1_15/ENET_RXD0, 88 PD_11, 89 P5_6/EMC_D10, 90 P1_16, 91 P5_7/EMC_D11, 92 P9_4/U3_RXD, 93 P1_17/ENET_MDIO, 94 PD_12, 95 P1_18/ENET_TXD0, 96 P1_19/ENET_TX_CLK, 97 PD_13, 98 P9_5, 99 PD_14, 100 P1_20/ENET_TXD1, 101 PD_15/EMC_A17, 103 P9_6, 104 PD_16/EMC_A16, 105 P6_0, 106 PE_0/EMC_A18, 107 P6_1, 108 P2_0/EMC_A13, 111 P6_2, 112 PE_1/EMC_A19, 113 P6_3, 114 P6_4/EMC_CAS, 115 PE_2/EMC_A20, 116 P2_1/EMC_A12, 117 P6_5/EMC_RAS, 118 PE_3, 119 P6_6/EMC_BLS1, 120 PE_4, 121 P2_2/EMC_A11, 122 PE_5, 123 P6_7/EMC_A15, 124 PE_6, 125 P6_8/EMC_A14, 126 PA_0, 127 P2_3, 128 P2_4, 131 P2_5, 132 I2C0_SCL, 133 I2C0_SDA, 134 PA_1/U2_TXD, 136 PA_2/U2_RXD, 137 P2_6/EMC_A10, 138 P2_7/EMC_A9, 139 P6_9/EMC_DYCS0, 140 P2_8/EMC_A8, 141 CLK2, 142 P6_10/EMC_DQMOUT1, 143 P6_11/EMC_CKEOUT0, 144 P2_9/EMC_A0, 145 P6_12/EMC_DQMOUT0, 146 P2_10/EMC_A1, 147 PA_3, 148 P2_11/EMC_A2, 149 PE_7, 150 PE_8, 151 PA_4, 152 PE_9, 153 P2_12/EMC_A3, 154 PE_10, 156 P2_13/EMC_A4, 158 P7_0/LCD_LE, 159 PF_0/SSP0_SCK, 161 P3_0, 162 P7_1/LCD_VD19, 163 P3_1, 164 PB_0/LCD_VD23, 165 P7_2/LCD_VD18, 166 P3_2, 167 P7_3/LCD_VD17, 168 PF_2/SSP0_MISO, 169 P3_3, 170 PF_3/SSP0_MOSI, 171 P3_4/U1_TXD, 172 PF_4/SSP1_SCK, 173 P3_5/U1_RXD, 174 P3_6, 175 PB_1/LCD_VD22, 176 P3_7, 177 PB_2/LCD_VD21, 178 PB_3/LCD_VD20, 179 P3_8, 180 PB_4/LCD_VD15, 181 PB_5/LCD_VD14, 189 P7_4/LCD_VD16, 190 PF_5/SSP1_SSEL, 191 P7_5/LCD_VD8, 192 PF_6/SSP1_MISO, 193 PF_7/SSP1_MOSI, 194 P7_6/LCD_LP, 201 P7_7/LCD_PWR, 203 PF_9/U0_DIR, 205 PF_10/U0_TXD, 207 PF_11/U0_RXD

## M482ZGCAE
designator DD?
Cortex®-M4F 192MHz 256KB FLASH 128KB SRAM 33-QFN (5x5)
footprint HVQFN33
pins: 1 PB.5, 2 PB.4, 3 PB.3, 4 PB.2, 5 PB.1, 6 PB.0, 7 PF.5/X32_IN, 8 PF.4/X32_OUT, 9 PF.3/XT1_IN, 10 PF.2/XT1_OUT, 11 PA.3, 12 PA.2, 13 PA.1, 14 PA.0, 15 VDDIO, 16 RESET, 17 PF.0/SWDIO, 18 PF.1/SWCLK, 19 PC.1, 20 PC.0, 21 PA.12, 22 PA.13, 23 PA.14, 24 PA.15, 25 GND, 26 LDO_CAP, 27 VDD, 28 PB.15, 29 PB.14, 30 PB.13, 31 PB.12, 32 AVDD, 33 GND

## MCU_SAM3S4A
designator A?
footprint MCU_SAM3S4A
pins: A1 PA13, A2 PA12, A3 PA11, A4 PA10, A5 PA9, A6 PA8, A7 PA7, A8 PA5, B1 PA14, B2 GND, B3 VCC, B5 GND, B7 PA6, C1 PA15, C2 VCC, D1 PA16, E1 PA20, F1 PA19, F10 PA2, F11 PA1, G1 PA18, G10 VCC, G11 PA0, H1 PA17, H2 GND, H3 VCC, H6 GND, H7 VCC, I1 PB3, I2 PB2, I3 PB1, I4 PB0, I5 PB11, I6 PB10, I7 PB12

## XMC4800F100
designator DD?
ARM Cortex-M4 32b MCU+FPU, up to 2MB Flash/ 384KB RAM, Ethernet, External Bus interface, TQFP100 with thermal pad
footprint LQFP100-25
part A pins: 10 VBUS  (power), 11 VDDP  (power), 12 VDDC  (power), 17 VBAT  (power), 32 VAGND  (power), 33 VAREF  (power), 34 VSSA  (power), 35 VDDA  (power), 42 VDDC  (power), 43 VDDP  (power), 59 VSS (power), 60 VDDP  (power), 63 VSSO  (power), 64 VDDC  (power), 86 VDDC  (power), 87 VDDP  (power), 101 VSS (power)
part B pins: 1 P0.1  (power), 2 P0.0  (power), 3 P0.10  (power), 4 P0.9  (power), 5 P3.2 (power), 6 P3.1 (power), 7 P3.0 (power), 8 USB_DM  (power), 9 USB_DP  (power), 13 HIB_IO_1  (power), 14 HIB_IO_0  (power), 15 RTC_XTAL2  (power), 16 RTC_XTAL1  (power), 18 P15.3  (power), 19 P15.2  (power), 20 P14.15  (power), 21 P14.14  (power), 22 P14.13  (power), 23 P14.12  (power), 24 P14.7  (power), 25 P14.6  (power), 26 P14.5  (power), 27 P14.4  (power), 28 P14.3  (power), 29 P14.2  (power), 30 P14.1  (power), 31 P14.0  (power), 36 P14.9  (power), 37 P14.8  (power), 38 P15.9  (power), 39 P15.8  (power), 40 P2.15  (power), 41 P2.14  (power), 44 P2.10  (power), 45 P2.9 (power), 46 P2.8 (power), 47 P2.5 (power), 48 P2.4 (power), 49 P2.3 (power), 50 P2.2 (power), 51 P2.1 (power), 52 P2.0 (power), 53 P2.7 (power), 54 P2.6 (power), 55 P5.7 (power), 56 P5.2 (power), 57 P5.1 (power), 58 P5.0 (power), 61 XTAL1  (power), 62 XTAL2  (power), 65 PORST (power), 66 TMS (power), 67 TCK (power), 68 P1.15  (power), 69 P1.14  (power), 70 P1.13  (power), 71 P1.12  (power), 72 P1.11  (power), 73 P1.10  (power), 74 P1.5 (power), 75 P1.4 (power), 76 P1.3 (power), 77 P1.2 (power), 78 P1.1 (power), 79 P1.0 (power), 80 P1.9 (power), 81 P1.8 (power), 82 P1.7 (power), 83 P1.6 (power), 84 P4.1 (power), 85 P4.0 (power), 88 P0.8  (power), 89 P0.7  (power), 90 P3.6 (power), 91 P3.5 (power), 92 P3.4 (power), 93 P3.3 (power), 94 P0.12  (power), 95 P0.11  (power), 96 P0.6  (power), 97 P0.5  (power), 98 P0.4  (power), 99 P0.3  (power), 100 P0.2  (power)

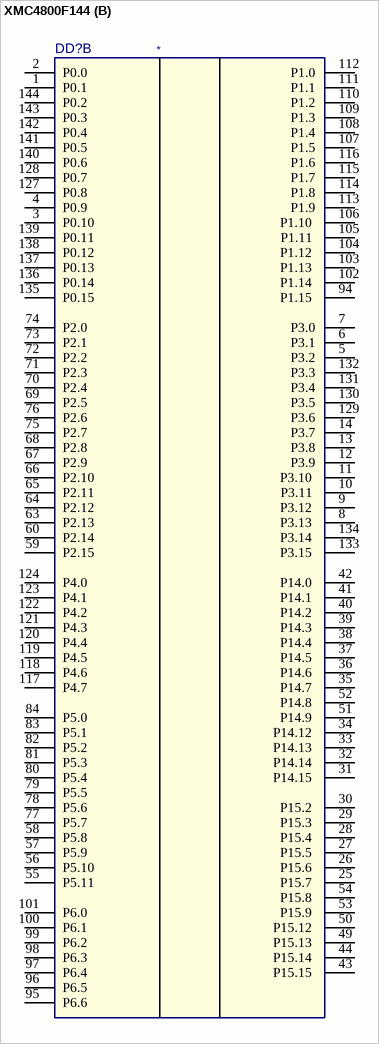
[diagram p12: symbol XMC4800F144]

## XMC4800F144
designator DD?
ARM Cortex-M4 32b MCU+FPU, up to 2MB Flash/ 384KB RAM, Ethernet, External Bus interface, TQFP144 with thermal pad
footprint LQFP144-24
part A pins: 15 USB_DM  (power), 16 USB_DP  (power), 17 VBUS  (power), 18 VDDP  (power), 19 VDDC  (power), 20 HIB_IO_1  (power), 21 HIB_IO_0  (power), 22 RTC_XTAL2  (power), 23 RTC_XTAL1  (power), 24 VBAT  (power), 45 VAGND  (power), 46 VAREF  (power), 47 VSSA  (power), 48 VDDA  (power), 61 VDDC  (power), 62 VDDP  (power), 85 VSS (power), 86 VDDP  (power), 87 XTAL1  (power), 88 XTAL2  (power), 89 VSSO  (power), 90 VDDC  (power), 91 PORST (power), 92 TMS (power), 93 TCK (power), 125 VDDC  (power), 126 VDDP  (power), 145 VSS (power)
part B pins: 1 P0.1  (power), 2 P0.0  (power), 3 P0.10  (power), 4 P0.9  (power), 5 P3.2 (power), 6 P3.1 (power), 7 P3.0 (power), 8 P3.13  (power), 9 P3.12  (power), 10 P3.11  (power), 11 P3.10  (power), 12 P3.9 (power), 13 P3.8 (power), 14 P3.7 (power), 25 P15.7  (power), 26 P15.6  (power), 27 P15.5  (power), 28 P15.4  (power), 29 P15.3  (power), 30 P15.2  (power), 31 P14.15  (power), 32 P14.14  (power), 33 P14.13  (power), 34 P14.12  (power), 35 P14.7  (power), 36 P14.6  (power), 37 P14.5  (power), 38 P14.4  (power), 39 P14.3  (power), 40 P14.2  (power), 41 P14.1  (power), 42 P14.0  (power), 43 P15.15  (power), 44 P15.14  (power), 49 P15.13  (power), 50 P15.12  (power), 51 P14.9  (power), 52 P14.8  (power), 53 P15.9  (power), 54 P15.8  (power), 55 P5.11  (power), 56 P5.10  (power), 57 P5.9 (power), 58 P5.8 (power), 59 P2.15  (power), 60 P2.14  (power), 63 P2.13  (power), 64 P2.12  (power), 65 P2.11  (power), 66 P2.10  (power), 67 P2.9 (power), 68 P2.8 (power), 69 P2.5 (power), 70 P2.4 (power), 71 P2.3 (power), 72 P2.2 (power), 73 P2.1 (power), 74 P2.0 (power), 75 P2.7 (power), 76 P2.6 (power), 77 P5.7 (power), 78 P5.6 (power), 79 P5.5 (power), 80 P5.4 (power), 81 P5.3 (power), 82 P5.2 (power), 83 P5.1 (power), 84 P5.0 (power), 94 P1.15  (power), 95 P6.6 (power), 96 P6.5 (power), 97 P6.4 (power), 98 P6.3 (power), 99 P6.2 (power), 100 P6.1 (power), 101 P6.0 (power), 102 P1.14  (power), 103 P1.13  (power), 104 P1.12  (power), 105 P1.11  (power), 106 P1.10  (power), 107 P1.5 (power), 108 P1.4 (power), 109 P1.3 (power), 110 P1.2 (power), 111 P1.1 (power), 112 P1.0 (power), 113 P1.9 (power), 114 P1.8 (power), 115 P1.7 (power), 116 P1.6 (power), 117 P4.7 (power), 118 P4.6 (power), 119 P4.5 (power), 120 P4.4 (power), 121 P4.3 (power), 122 P4.2 (power), 123 P4.1 (power), 124 P4.0 (power), 127 P0.8  (power), 128 P0.7  (power), 129 P3.6 (power), 130 P3.5 (power), 131 P3.4 (power), 132 P3.3 (power), 133 P3.15  (power), 134 P3.14  (power), 135 P0.15  (power), 136 P0.14  (power), 137 P0.13  (power), 138 P0.12  (power), 139 P0.11  (power), 140 P0.6  (power), 141 P0.5  (power), 142 P0.4  (power), 143 P0.3  (power), 144 P0.2  (power)